# Altium footprint library 794285-1.PCBLIB: 1 footprints
Each footprint in its own frame and in the unit in brackets; x right, y up, seen from the top. Pads: shape width x height; smd on the part's side, far side on the other; paste and mask are expansions set on the pad; w line width, h text height; cw(c..) or ccw(c..) is an arc to the next point about the centre after c.
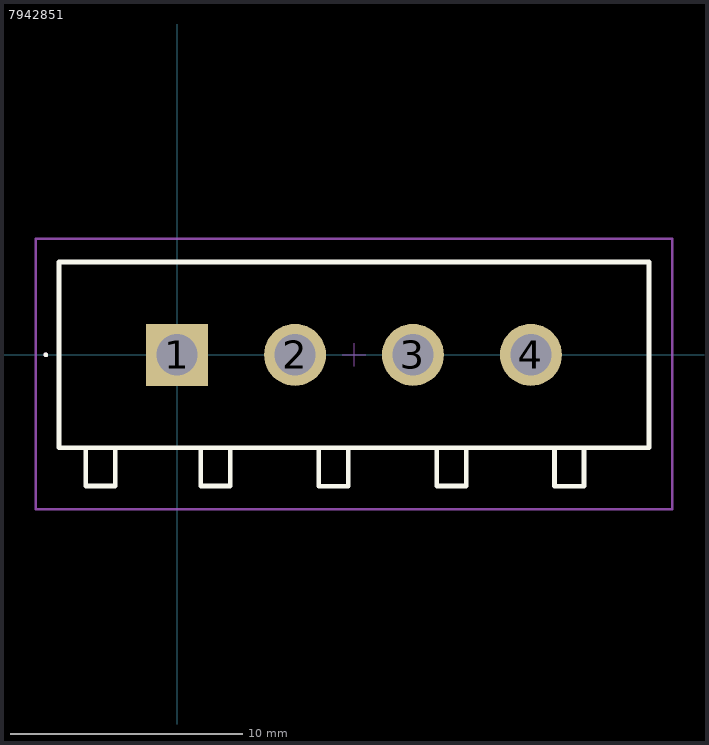
[diagram p0: the footprint, top view; thin cyan lines are the x and y axes]

## 7942851 [mm]
pads (4):
  rect 2.67x2.67 hole 1.78: 1(0,0)
  round 2.67 hole 1.78: 2(5.08,0) 3(10.16,0) 4(15.24,0)
Top Overlay:
  lines w0.1: -5.7,0 ccw(c-5.65,0) -5.6,0 ccw(c-5.65,0) -5.7,0
  lines w0.2: -3.937,-4 -3.937,-5.65 -2.667,-5.65 -2.667,-4 ; 1.016,-4 1.016,-5.65 2.286,-5.65 2.286,-4 ; 6.096,-4.001 6.096,-5.651 7.366,-5.651 7.366,-4.001 ; 11.176,-4 11.176,-5.65 12.446,-5.65 12.446,-4 ; 16.256,-4.001 16.256,-5.651 17.526,-5.651 17.526,-4.001 ; -5.08,-4 -5.08,4 20.32,4 20.32,-4 -5.08,-4
Top Assembly:
  lines w0.1: -3.937,-4 -3.937,-5.65 -2.667,-5.65 -2.667,-4 ; 1.016,-4 1.016,-5.65 2.286,-5.65 2.286,-4 ; 6.096,-4 6.096,-5.65 7.366,-5.65 7.366,-4 ; 11.176,-4 11.176,-5.65 12.446,-5.65 12.446,-4 ; 16.256,-4 16.256,-5.65 17.526,-5.65 17.526,-4 ; -5.7,0 ccw(c-5.65,0) -5.6,0 ccw(c-5.65,0) -5.7,0 ; -5.08,-4 -5.08,4 20.32,4 20.32,-4 -5.08,-4
Top Courtyard:
  lines w0.1: -6.08,-6.65 -6.08,5 21.32,5 21.32,-6.65 -6.08,-6.65
Top Designator:
  text ".Designator" at 2.875,5.52 h1
Top Component Center:
  lines w0.05: 7.12,0 8.12,0 ; 7.62,-0.5 7.62,0.5
3D body "794285-1.stp": height 11.95, standoff -3.54, extent -5.08,-5.461 20.32,4.191